# Altium integrated library STMicroelectronics BlueTooth.IntLib: 1 symbol
Pins are listed as number, name and electrical type; pins without a type are passive.

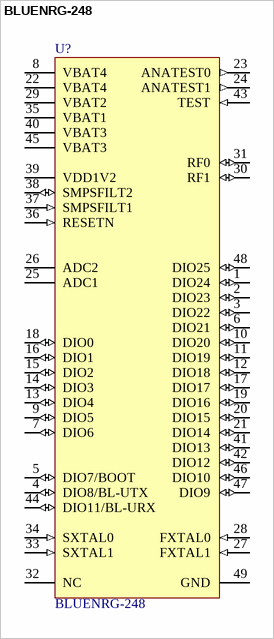
[diagram p0: symbol BLUENRG-248]

## BLUENRG-248
designator U?
BLUETOOTH&#174 LOW ENERGY WIRELE; Manufacturer: STMicroelectronics; Supplier 1: Digi-Key; Manufacturer Part Number: BLUENRG-248; Stock 1: 90; Pricing 1: 1 = 4,00000, 10 = 3,57000, 100 = 2,92740, 500 = 2,37048, 1000 = 1,99920 (USD); Value: BLUENRG-248; Supplier Part Number 1: 497-18074-1-ND
footprint QFN48 6X6 (QFN48 ()
pins: 1 DIO24 (io), 2 DIO23 (io), 3 DIO22 (io), 4 DIO8/BL-UTX (io), 5 DIO7/BOOT (io), 6 DIO21 (io), 7 DIO6 (io), 8 VBAT4, 9 DIO5 (io), 10 DIO20 (io), 11 DIO19 (io), 12 DIO18 (io), 13 DIO4 (io), 14 DIO3 (io), 15 DIO2 (io), 16 DIO1 (io), 17 DIO17 (io), 18 DIO0 (io), 19 DIO16 (io), 20 DIO15 (io), 21 DIO14 (io), 22 VBAT4, 23 ANATEST0 (out), 24 ANATEST1 (out), 25 ADC1, 26 ADC2, 27 FXTAL1 (in), 28 FXTAL0 (in), 29 VBAT2, 30 RF1 (io), 31 RF0 (io), 32 NC, 33 SXTAL1 (in), 34 SXTAL0 (in), 35 VBAT1, 36 RESETN (in), 37 SMPSFILT1 (in), 38 SMPSFILT2 (io), 39 VDD1V2, 40 VBAT3, 41 DIO13 (io), 42 DIO12 (io), 43 TEST (in), 44 DIO11/BL-URX (io), 45 VBAT3, 46 DIO10 (io), 47 DIO9 (io), 48 DIO25 (io), 49 GND